# Altium integrated library Lib_Pluggi_LedScreen.IntLib: 2 symbols
Pins are listed as number, name and electrical type; pins without a type are passive.

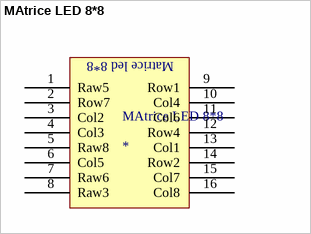
[diagram p0: symbol MAtrice LED 8*8]

## MAtrice LED 8*8
designator MAtrice LED 8*8
footprint LED MATRIX
pins: 1 Raw5, 2 Row7, 3 Col2, 4 Col3, 5 Raw8, 6 Col5, 7 Raw6, 8 Raw3, 9 Row1, 10 Col4, 11 Col6, 12 Row4, 13 Col1, 14 Row2, 15 Col7, 16 Col8
text: Matrice led 8*8


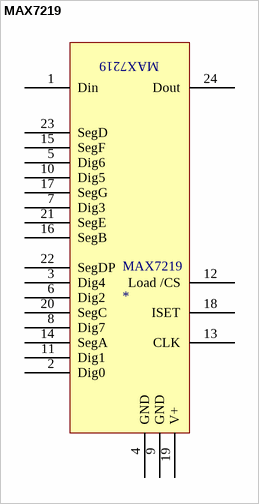
[diagram p1: symbol MAX7219]

## MAX7219
designator MAX7219
footprint MAX7219
pins: 1 Din, 2 Dig0, 3 Dig4, 4 GND, 5 Dig6, 6 Dig2, 7 Dig3, 8 Dig7, 9 GND, 10 Dig5, 11 Dig1, 12 Load /CS, 13 CLK, 14 SegA, 15 SegF, 16 SegB, 17 SegG, 18 ISET, 19 V+, 20 SegC, 21 SegE, 22 SegDP, 23 SegD, 24 Dout